# EAGLE library part TPL5110 (library SparkFun-IC-Power)
TPL5110 Nano-Power System Timer for Power Gating The TPL5110 Nano Timer is a low power timer with an integrated MOSFET driver designed for power gating in duty cycled or battery-powered applications. Consuming only 35 nA, the TPL5110 can enable the power supply line and drastically reduce the overall system stand by current during the sleep time.
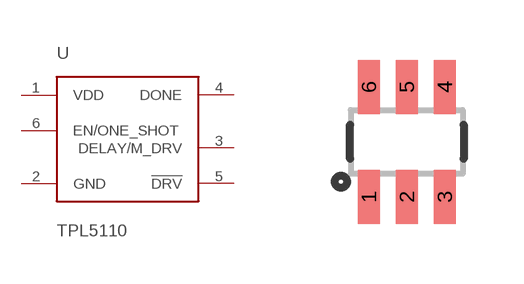
[diagram p23: symbol with the pads of SOT23-6; footprint SOT23-6]

Designator prefix U

## TPL5110 (PROD_ID: IC-14387)  [SOT23-6]
1  VDD  pwr
2  GND  pwr
3  DELAY/M_DRV  in
4  DONE  in
5  !DRV  out
6  EN/ONE_SHOT  in

## Footprint SOT23-6 (pad centres in mm)
SOT23 (6 pin) Mechanical Layout Landing Pad: 0.55mm X 1.395mm Landing Pad Pitch: 0.95mm 2.7mm vertical distance between pads
smd 0.55 x 1.35: 1 -0.95,-1.375; 2 0,-1.375; 3 0.95,-1.375; 4 0.95,1.375; 5 0,1.375; 6 -0.95,1.375